# EAGLE library part IC-DS1302 (library - Jins eagle lbr)
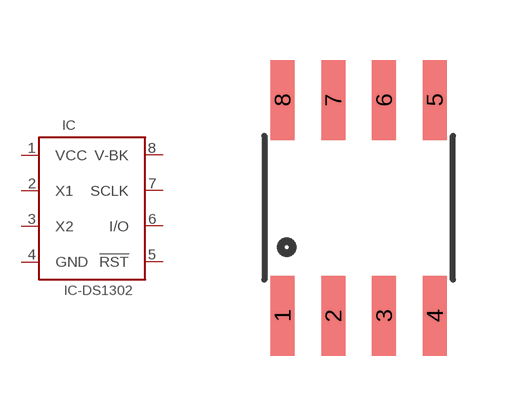
[diagram p13: symbol with the pads of SOP-08; footprint SOP-08]

Designator prefix IC

## IC-DS1302-RTC  [SOP-08]
1  VCC
2  X1
3  X2
4  GND
5  !RST
6  I/O
7  SCLK
8  V-BK

## Footprint SOP-08 (pad centres in mm)
smd 0.6 x 2: 1 -1.905,-2.7; 2 -0.635,-2.7; 3 0.635,-2.7; 4 1.905,-2.7; 5 1.905,2.7; 6 0.635,2.7; 7 -0.635,2.7; 8 -1.905,2.7